# EAGLE library part GAS-SENSOR-MICS-6814(10P-7.5X5.5MM) (library Seeed-OPL-sensor)
314100015
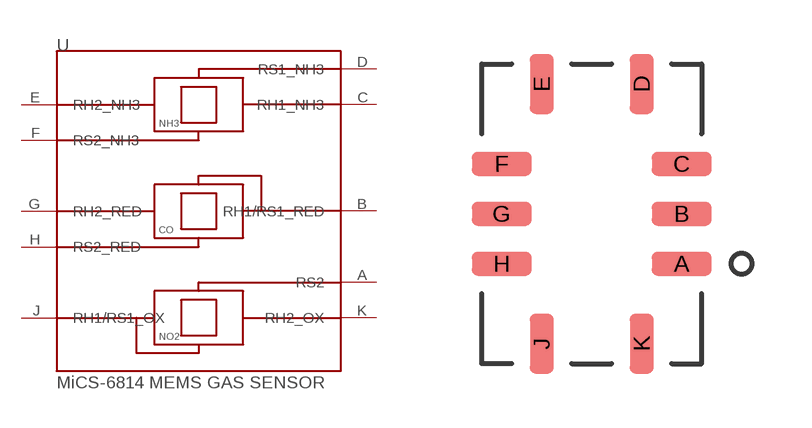
[diagram p26: symbol with the pads of SNR10-SMD-1.25-7.5X5.5MM; footprint SNR10-SMD-1.25-7.5X5.5MM]

Designator prefix U

## GAS-SENSOR-MICS-6814(10P-7.5X5.5MM) (MPN: MICS-6814; VALUE: MICS-6814)  [SNR10-SMD-1.25-7.5X5.5MM]
A  RS2
B  RH1/RS1_RED
C  RH1_NH3
D  RS1_NH3
E  RH2_NH3
F  RS2_NH3
G  RH2_RED
H  RS2_RED
J  RH1/RS1_OX
K  RH2_OX

## Footprint SNR10-SMD-1.25-7.5X5.5MM (pad centres in mm)
smd 1.5 x 0.6: A 2.25,-1.25; B 2.25,0; C 2.25,1.25; F -2.25,1.25; G -2.25,0; H -2.25,-1.25
smd 0.6 x 1.5: D 1.25,3.25; E -1.25,3.25; J -1.25,-3.25; K 1.25,-3.25